# Altium footprint library SMT Tantalum Capacitors.PcbLib: 4 footprints
Each footprint in its own frame and in the unit in brackets; x right, y up, seen from the top. Pads: shape width x height; smd on the part's side, far side on the other; paste and mask are expansions set on the pad; w line width, h text height; cw(c..) or ccw(c..) is an arc to the next point about the centre after c.
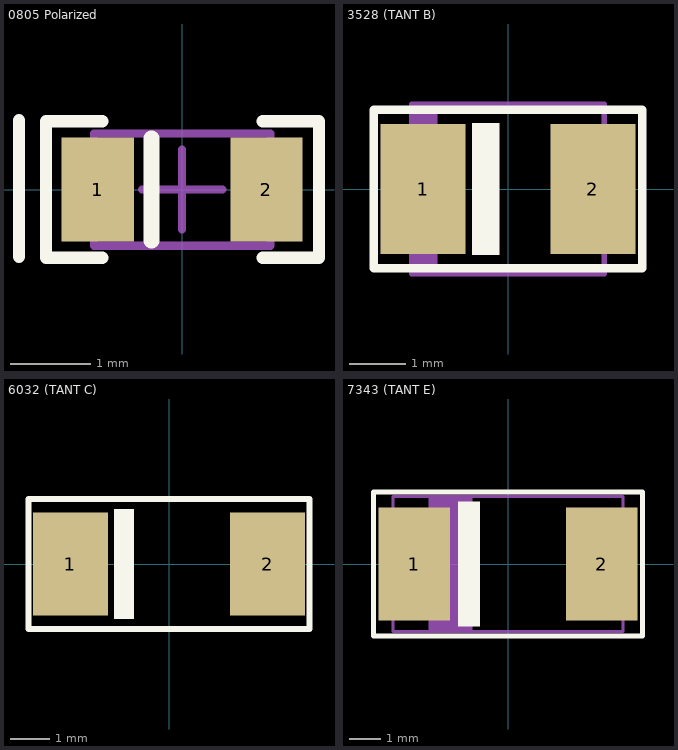
[diagram p0: the footprints below, top view; thin cyan lines are the x and y axes]

## 0805 Polarized [mm] "0805 Polarized"
pads (2):
  rect 0.9x1.3 smd: 1(-1.05,0) 2(1.05,0)
Top Overlay:
  lines w0.152: -2.032,-0.836 -2.032,0.864 ; -0.995,-0.85 -1.695,-0.85 -1.695,0.85 -0.995,0.85 ; 1.005,-0.85 1.705,-0.85 1.705,0.85 1.005,0.85
  lines w0.203: -0.381,-0.635 -0.381,0.635
Mechanical 13:
  lines w0.1: -1.1,-0.7 1.1,-0.7 1.1,0.7 -1.1,0.7 -1.1,-0.7
Mechanical 15:
  lines w0.1: -0.5,0 0.5,0 ; 0,-0.5 0,0.5
3D body: height 0.46, standoff 0.03, extent -0.8,-0.6 0.8,0.6
3D body: height 0.5, standoff 0, extent -1.05,-0.625 -0.75,0.625
3D body: height 0.5, standoff 0, extent 0.75,-0.625 1.05,0.625

## 3528 (TANT B) [mm] "Tantalum SMT Case B 3528"
height 2.1
pads (2):
  rect 1.5x2.3 smd paste-0.1 mask+0.025: 1(-1.5,0) 2(1.5,0)
Top Overlay:
  rectangle: -0.635,-1.168 -0.152,1.168
  lines w0.152: -2.375,-1.4 -2.375,1.4 2.375,1.4 2.375,-1.4 -2.375,-1.4
Mechanical 13:
  rectangle: -1.7,-1.5 -1.243,1.5
  lines w0.1: -1.7,-1.5 1.7,-1.5 1.7,1.5 -1.7,1.5 -1.7,-1.5
3D body: height 1.91, standoff 0, extent -1.746,-1.403 1.746,1.397

## 6032 (TANT C) [mm] "Tantalum SMT Case C 6032-28"
height 4.3
pads (2):
  rect 1.9x2.6 smd paste-0.1 mask+0.025: 1(-2.5,0) 2(2.5,0)
Top Overlay:
  rectangle: -1.397,-1.397 -0.889,1.397
  lines w0.152: -3.556,-1.651 3.556,-1.651 3.556,1.651 -3.556,1.651 -3.556,-1.651
3D body: height 2.51, standoff 0, extent -2.997,-1.549 2.997,1.651

## 7343 (TANT E) [mm] "Tantalum SMT Case E 7343"
height 4.3
pads (2):
  rect 2.3x3.6 smd paste-0.15 mask+0.025: 1(-3,0) 2(3,0)
Top Overlay:
  rectangle: -1.6,-2 -0.9,2
  lines w0.152: -4.3,-2.3 4.3,-2.3 4.3,2.3 -4.3,2.3 -4.3,-2.3
Mechanical 13:
  rectangle: -2.54,-2.159 -1.143,2.159
  lines w0.1: -3.683,-2.159 3.683,-2.159 3.683,2.159 -3.683,2.159 -3.683,-2.159
3D body: height 2.25, standoff 0.02, extent -3.65,-2.141 3.65,2.159